# EAGLE library part 52806-1410 (library 52806-1410)
Molex 2mm Pitch 14 Way Straight Female FPC Connector Source: Datasheet <https://tools.molex.com/pdm_docs/sd/528060410_sd.pdf>
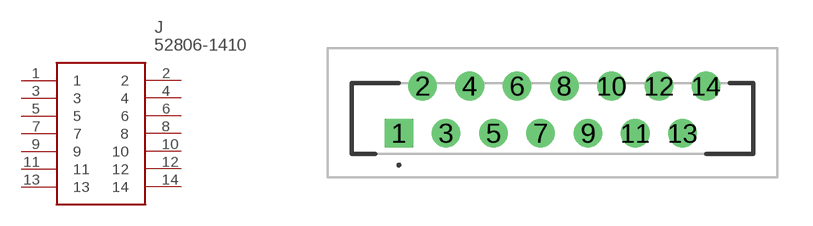
[diagram p0: symbol with the pads of 528061410; footprint 528061410]

Designator prefix J

## 52806-1410 (Description: Molex 2mm Pitch 14 Way Straight Female FPC Connector; Height: 5.6mm; Manufacturer_Name: Molex; Manufacturer_Part_Number: 52806-1410; Mouser_Part_Number: 538-52806-1410; Mouser_Price-Stock: https://www.mouser.co.uk/ProductDetail/Molex/52806-1410?qs=%252BdbFUiYBkDYU5moeZz2crA%3D%3D)  [528061410]
1  1
2  2
3  3
4  4
5  5
6  6
7  7
8  8
9  9
10  10
11  11
12  12
13  13
14  14

## Footprint 528061410 (pad centres in mm)
52806-1410-1
drill 0.7 pad 1.2 square: 1 0,0
drill 0.7 pad 1.2: 2 1,2; 3 2,0; 4 3,2; 5 4,0; 6 5,2; 7 6,0; 8 7,2; 9 8,0; 10 9,2; 11 10,0; 12 11,2; 13 12,0; 14 13,2